# EAGLE library part LMR33630ADDAR (library LMR33630)
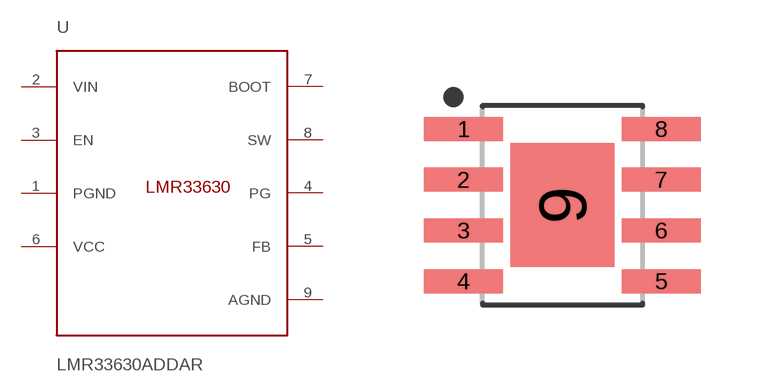
[diagram p0: symbol with the pads of SOIC127P600X170-9T260X310N; footprint SOIC127P600X170-9T260X310N]

Designator prefix U

## LMR33630ADDAR  [SOIC127P600X170-9T260X310N]
1  PGND
2  VIN
3  EN
4  PG
5  FB
6  VCC
7  BOOT
8  SW
9  AGND

## Footprint SOIC127P600X170-9T260X310N (pad centres in mm)
8-SOIC, 1.27 mm pitch, 6.00 mm span, 4.90 X 3.90 X 1.70 mm body, 3.10 X 2.60 mm thermal pad 8-pin SOIC package with 1.27 mm pitch, 6.00 mm span with body size 4.90 X 3.90 X 1.70 mm and thermal pad size 3.10 X 2.60 mm
smd 1.968 x 0.599: 1 -2.473,1.905; 2 -2.473,0.635; 3 -2.473,-0.635; 4 -2.473,-1.905; 5 2.473,-1.905; 6 2.473,-0.635; 7 2.473,0.635; 8 2.473,1.905
smd 2.6 x 3.1: 9 0,0